# EAGLE library part CD4053 (library template)
Triple 2-Channel Analog Multiplexer/Demultiplexer
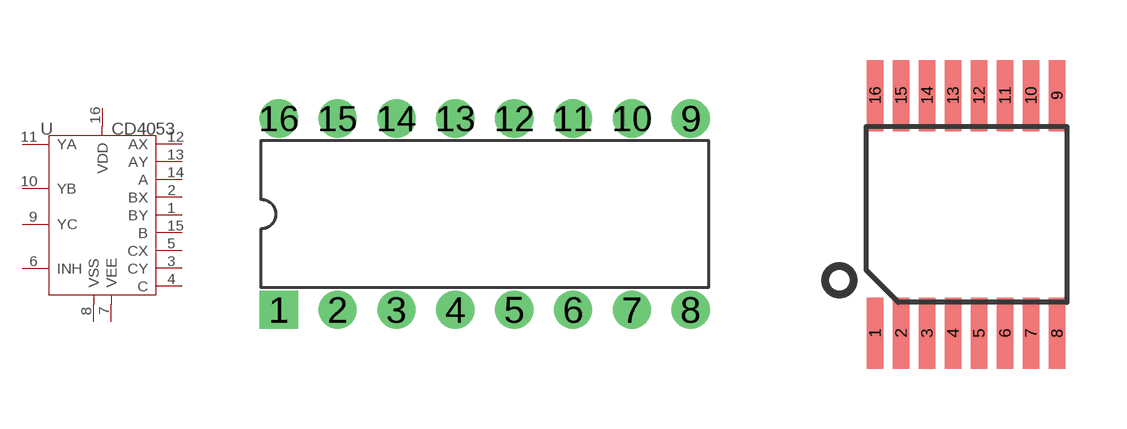
[diagram p7: symbol with the pads of DIP16-8.255; footprints DIP16-8.255, TSSOP16-6.4]

Designator prefix U

## CD4053'DIP16'  [DIP16-8.255]
1  BY
2  BX
3  CY
4  C
5  CX
6  INH
7  VEE
8  VSS
9  YC
10  YB
11  YA
12  AX
13  AY
14  A
15  B
16  VDD

## CD4053  [TSSOP16-6.4]
Pads as for DIP16-8.255

## Footprint DIP16-8.255 (pad centres in mm)
drill 0.889 pad 1.651 square: 1 -8.89,-4.128
drill 0.889 pad 1.651: 2 -6.35,-4.128; 3 -3.81,-4.128; 4 -1.27,-4.128; 5 1.27,-4.128; 6 3.81,-4.128; 7 6.35,-4.128; 8 8.89,-4.128; 9 8.89,4.128; 10 6.35,4.128; 11 3.81,4.128; 12 1.27,4.128; 13 -1.27,4.128; 14 -3.81,4.128; 15 -6.35,4.128; 16 -8.89,4.128

## Footprint TSSOP16-6.4 (pad centres in mm)
smd 0.42 x 1.78: 1 -2.275,-2.97; 2 -1.625,-2.97; 3 -0.975,-2.97; 4 -0.325,-2.97; 5 0.325,-2.97; 6 0.975,-2.97; 7 1.625,-2.97; 8 2.275,-2.97; 9 2.275,2.97; 10 1.625,2.97; 11 0.975,2.97; 12 0.325,2.97; 13 -0.325,2.97; 14 -0.975,2.97; 15 -1.625,2.97; 16 -2.275,2.97